# EAGLE library part YM3439 (library F030NG)
MICROCONTROLLER/MEMORY DEVICE
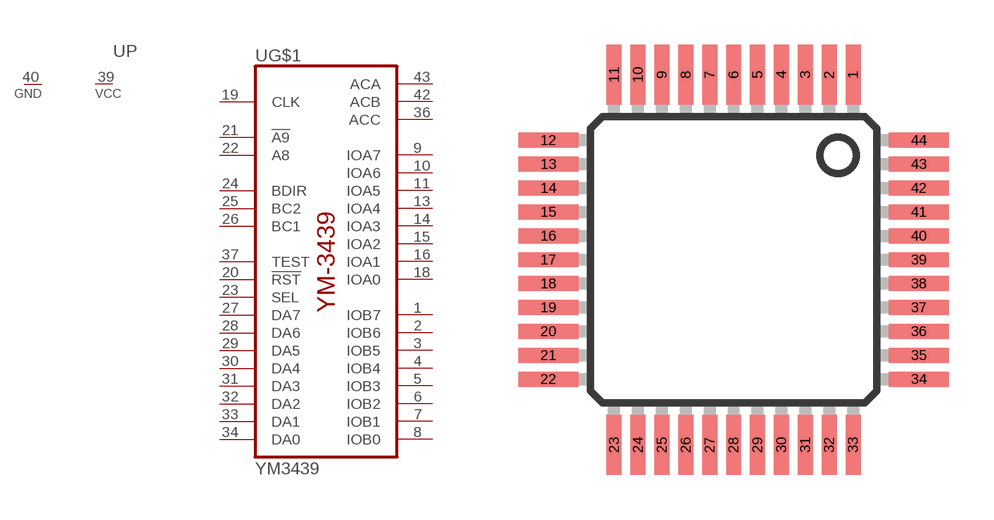
[diagram p5: symbol with the pads of PQFP44; footprint PQFP44]

Designator prefix U; gates G$1=YM-3439 P=1VCC_1GND

## YM3439-QFP44  [PQFP44]
1  G$1:IOB7
2  G$1:IOB6
3  G$1:IOB5
4  G$1:IOB4
5  G$1:IOB3
6  G$1:IOB2
7  G$1:IOB1
8  G$1:IOB0
9  G$1:IOA7
10  G$1:IOA6
11  G$1:IOA5
13  G$1:IOA4
14  G$1:IOA3
15  G$1:IOA2
16  G$1:IOA1
18  G$1:IOA0
19  G$1:CLK  in
20  G$1:!RST  in
21  G$1:!A9  in
22  G$1:A8  in
23  G$1:SEL  in
24  G$1:BDIR  in
25  G$1:BC2  in
26  G$1:BC1  in
27  G$1:DA7
28  G$1:DA6
29  G$1:DA5
30  G$1:DA4
31  G$1:DA3
32  G$1:DA2
33  G$1:DA1
34  G$1:DA0
36  G$1:ACC  out
37  G$1:TEST  out
39  P:VCC  pwr
40  P:GND  pwr
42  G$1:ACB  out
43  G$1:ACA  out

## Footprint PQFP44 (pad centres in mm)
Plastic Quad Flat Package
smd 0.5 x 2: 1 4,6.2; 2 3.2,6.2; 3 2.4,6.2; 4 1.6,6.2; 5 0.8,6.2; 6 0,6.2; 7 -0.8,6.2; 8 -1.6,6.2; 9 -2.4,6.2; 10 -3.2,6.2; 11 -4,6.2; 23 -4,-6.2; 24 -3.2,-6.2; 25 -2.4,-6.2; 26 -1.6,-6.2; 27 -0.8,-6.2; 28 0,-6.2; 29 0.8,-6.2; 30 1.6,-6.2; 31 2.4,-6.2; 32 3.2,-6.2; 33 4,-6.2
smd 2 x 0.5: 12 -6.2,4; 13 -6.2,3.2; 14 -6.2,2.4; 15 -6.2,1.6; 16 -6.2,0.8; 17 -6.2,0; 18 -6.2,-0.8; 19 -6.2,-1.6; 20 -6.2,-2.4; 21 -6.2,-3.2; 22 -6.2,-4; 34 6.2,-4; 35 6.2,-3.2; 36 6.2,-2.4; 37 6.2,-1.6; 38 6.2,-0.8; 39 6.2,0; 40 6.2,0.8; 41 6.2,1.6; 42 6.2,2.4; 43 6.2,3.2; 44 6.2,4